# EAGLE library part MCP6021 (library op-amp)
OP-AMP 2.5V to 5.5V Rail-to-Rail
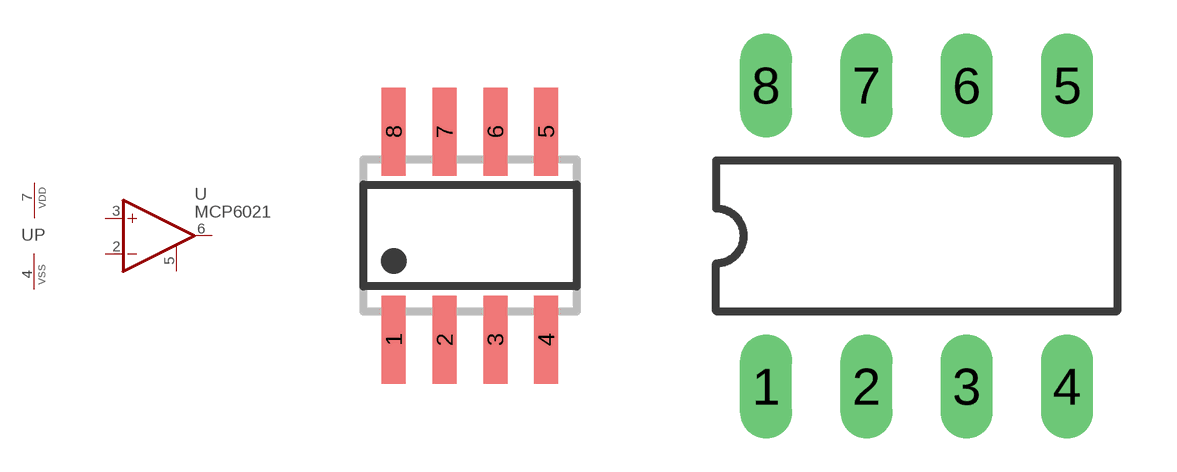
[diagram p37: symbol with the pads of SO08; footprints SO08, DIL08]

Designator prefix U; gates P=PWR_VDDVSS G$1=_REF G$2=OPAMP_PV

## MCP6021/SN  [SO08]
2  G$2:-IN  in
3  G$2:+IN  in
4  P:VSS  pwr
5  G$1:REF  pas
6  G$2:OUT  out
7  P:VDD  pwr

## MCP6021/P  [DIL08]
Pads as for SO08

## MCP6021/ST  [TSSOP8]
Pads as for SO08

## Footprint SO08 (pad centres in mm)
SMALL OUTLINE INTEGRATED CIRCUIT body 3.9 mm/JEDEC MS-012AA
smd 0.6 x 2.2: 1 -1.905,-2.6; 2 -0.635,-2.6; 3 0.635,-2.6; 4 1.905,-2.6; 5 1.905,2.6; 6 0.635,2.6; 7 -0.635,2.6; 8 -1.905,2.6

## Footprint DIL08 (pad centres in mm)
Dual In Line Package
drill 0.813 long: 1 -3.81,-3.81; 2 -1.27,-3.81; 3 1.27,-3.81; 4 3.81,-3.81; 5 3.81,3.81; 6 1.27,3.81; 7 -1.27,3.81; 8 -3.81,3.81

## Footprint TSSOP8 (pad centres in mm)
Thin Shrink Small Outline Plastic 8
smd 0.45 x 1.5: 1 -0.975,-2.9; 2 -0.325,-2.9; 3 0.325,-2.9; 4 0.975,-2.9; 5 0.975,2.9; 6 0.325,2.9; 7 -0.325,2.9; 8 -0.975,2.9